# Altium integrated library Linear Technology Power Management Switching Regulator LTC1174-LTC3901.IntLib: 2647 symbols (part 246 of 364)
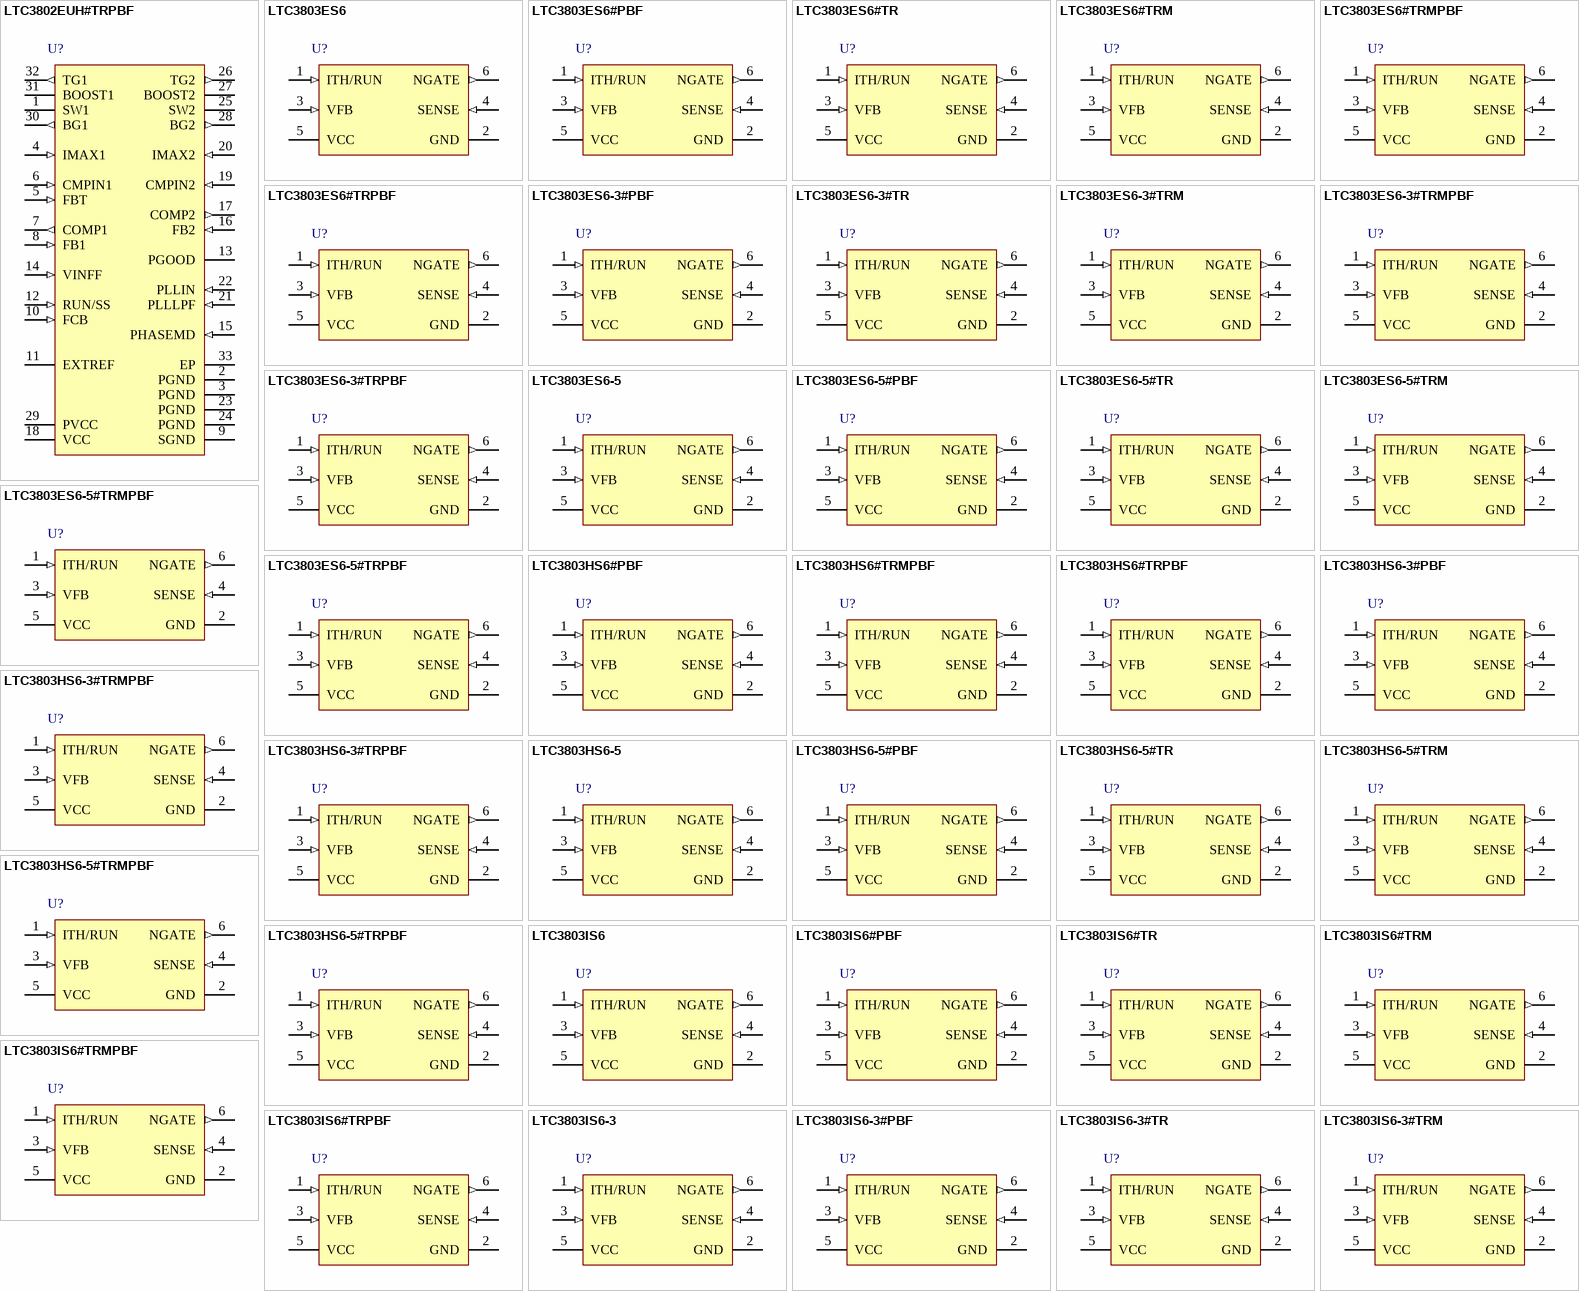
[diagram p242: symbols LTC3802EUH#TRPBF to LTC3803IS6-3#TRM]

## LTC3803HS6-5#TRM
designator U?
Constant Frequency Current Mode Flyback DC/DC Controller, 6-pin SOT23 (S6-6), -40 to 150 degC, Mini Tape and Reel; Manufacturer: Linear Technology; PartNumber: LTC3803HS6-5#TRM; Number of Outputs: 1; DatasheetVersion: Rev. D; PackageVersion: Jun-10; PackageReference: S6-6; PackageDescription: 6-Pin Plastic TSOT-23, Body 2.9 x 1.63 mm, Pitch 0.95 mm; Packing: Mini Tape and Reel; RoHS: FALSE; Mounting Technology: Surface Mount; Code_JEDEC: MO-193; ComponentLink1Description: Manufacturer URL; ComponentLink1URL: http://www.linear.com/; ComponentLink2Description: Datasheet; ComponentLink2URL: http://cds.linear.com/docs/en/datasheet/38035fc.pdf; ComponentLink3Description: Package Specification; ComponentLink3URL: http://cds.linear.com/docs/en/packaging/SOT_6_05-08-1636.pdf
footprint LT-S6-6-TSOT-23_N (SOT23, 6-Leads, Body 2.9x1.75mm, Pitch 0.95mm, IPC Medium Density)
footprint LT-S6-6-TSOT-23_L (SOT23, 6-Leads, Body 2.9x1.75mm, Pitch 0.95mm, IPC High Density)
footprint LT-S6-6-TSOT-23_M (SOT23, 6-Leads, Body 2.9x1.75mm, Pitch 0.95mm, IPC Low Density)
pins: 1 ITH/RUN (in), 2 GND (power) "Ground Pin.", 3 VFB (in) "Receives the feedback voltage from an external resistive divider across the output.", 4 SENSE (in) "This pin performs two functions. It monitors switch current by reading the voltage across an external current sense resistor to ground. It also injects a current ramp that develops slope compensation voltage across an (See Datasheet)", 5 VCC (power) "Supply Pin. Must be closely decoupled to GND (Pin 2).", 6 NGATE (out) "Gate Drive for the External N-channel MOSFET. This pin swings from 0V to VCC."

## LTC3803HS6-5#TRMPBF
designator U?
Constant Frequency Current Mode Flyback DC/DC Controller, 6-pin SOT23 (S6-6), -40 to 150 degC, Pb-Free, Mini Tape and Reel; Manufacturer: Linear Technology; PartNumber: LTC3803HS6-5#TRMPBF; Number of Outputs: 1; DatasheetVersion: Rev. D; PackageVersion: Jun-10; PackageReference: S6-6; PackageDescription: 6-Pin Plastic TSOT-23, Body 2.9 x 1.63 mm, Pitch 0.95 mm; Supplier 1: Digi-Key; Supplier Part Number 1: LTC3803HS6-5#TRMPBFTR-ND; Supplier 2: Digi-Key; Supplier Part Number 2: LTC3803HS6-5#TRMPBFCT-ND; Supplier 3: Digi-Key; Supplier Part Number 3: LTC3803HS6-5#TRMPBFDKR-ND; Packing: Mini Tape and Reel; RoHS: TRUE; Mounting Technology: Surface Mount; Code_JEDEC: MO-193; ComponentLink1Description: Manufacturer URL; ComponentLink1URL: http://www.linear.com/; ComponentLink2Description: Datasheet; ComponentLink2URL: http://cds.linear.com/docs/en/datasheet/38035fc.pdf; ComponentLink3Description: Package Specification; ComponentLink3URL: http://cds.linear.com/docs/en/packaging/SOT_6_05-08-1636.pdf
footprint LT-S6-6-TSOT-23_N (SOT23, 6-Leads, Body 2.9x1.75mm, Pitch 0.95mm, IPC Medium Density)
footprint LT-S6-6-TSOT-23_L (SOT23, 6-Leads, Body 2.9x1.75mm, Pitch 0.95mm, IPC High Density)
footprint LT-S6-6-TSOT-23_M (SOT23, 6-Leads, Body 2.9x1.75mm, Pitch 0.95mm, IPC Low Density)
pins: 1 ITH/RUN (in), 2 GND (power) "Ground Pin.", 3 VFB (in) "Receives the feedback voltage from an external resistive divider across the output.", 4 SENSE (in) "This pin performs two functions. It monitors switch current by reading the voltage across an external current sense resistor to ground. It also injects a current ramp that develops slope compensation voltage across an (See Datasheet)", 5 VCC (power) "Supply Pin. Must be closely decoupled to GND (Pin 2).", 6 NGATE (out) "Gate Drive for the External N-channel MOSFET. This pin swings from 0V to VCC."

## LTC3803HS6-5#TRPBF
designator U?
Constant Frequency Current Mode Flyback DC/DC Controller, 6-pin SOT23 (S6-6), -40 to 150 degC, Pb-Free, Tape and Reel; Manufacturer: Linear Technology; PartNumber: LTC3803HS6-5#TRPBF; Number of Outputs: 1; DatasheetVersion: Rev. D; PackageVersion: Jun-10; PackageReference: S6-6; PackageDescription: 6-Pin Plastic TSOT-23, Body 2.9 x 1.63 mm, Pitch 0.95 mm; Supplier 1: Digi-Key; Supplier Part Number 1: LTC3803HS6-5#TRPBF-ND; Packing: Tape and Reel; RoHS: TRUE; Mounting Technology: Surface Mount; Code_JEDEC: MO-193; ComponentLink1Description: Manufacturer URL; ComponentLink1URL: http://www.linear.com/; ComponentLink2Description: Datasheet; ComponentLink2URL: http://cds.linear.com/docs/en/datasheet/38035fc.pdf; ComponentLink3Description: Package Specification; ComponentLink3URL: http://cds.linear.com/docs/en/packaging/SOT_6_05-08-1636.pdf
footprint LT-S6-6-TSOT-23_N (SOT23, 6-Leads, Body 2.9x1.75mm, Pitch 0.95mm, IPC Medium Density)
footprint LT-S6-6-TSOT-23_L (SOT23, 6-Leads, Body 2.9x1.75mm, Pitch 0.95mm, IPC High Density)
footprint LT-S6-6-TSOT-23_M (SOT23, 6-Leads, Body 2.9x1.75mm, Pitch 0.95mm, IPC Low Density)
pins: 1 ITH/RUN (in), 2 GND (power) "Ground Pin.", 3 VFB (in) "Receives the feedback voltage from an external resistive divider across the output.", 4 SENSE (in) "This pin performs two functions. It monitors switch current by reading the voltage across an external current sense resistor to ground. It also injects a current ramp that develops slope compensation voltage across an (See Datasheet)", 5 VCC (power) "Supply Pin. Must be closely decoupled to GND (Pin 2).", 6 NGATE (out) "Gate Drive for the External N-channel MOSFET. This pin swings from 0V to VCC."

## LTC3803IS6
designator U?
Constant Frequency Current Mode Flyback DC/DC Controller, 6-pin SOT23 (S6-6), -40 to 125 degC; Manufacturer: Linear Technology; PartNumber: LTC3803IS6; Number of Outputs: 1; DatasheetVersion: Rev. C; PackageVersion: Jun-10; PackageReference: S6-6; PackageDescription: 6-Pin Plastic TSOT-23, Body 2.9 x 1.63 mm, Pitch 0.95 mm; RoHS: FALSE; Mounting Technology: Surface Mount; Code_JEDEC: MO-193; ComponentLink1Description: Manufacturer URL; ComponentLink1URL: http://www.linear.com/; ComponentLink2Description: Datasheet; ComponentLink2URL: http://cds.linear.com/docs/en/datasheet/3803fc.pdf; ComponentLink3Description: Package Specification; ComponentLink3URL: http://cds.linear.com/docs/en/packaging/SOT_6_05-08-1636.pdf
footprint LT-S6-6-TSOT-23_N (SOT23, 6-Leads, Body 2.9x1.75mm, Pitch 0.95mm, IPC Medium Density)
footprint LT-S6-6-TSOT-23_L (SOT23, 6-Leads, Body 2.9x1.75mm, Pitch 0.95mm, IPC High Density)
footprint LT-S6-6-TSOT-23_M (SOT23, 6-Leads, Body 2.9x1.75mm, Pitch 0.95mm, IPC Low Density)
pins: 1 ITH/RUN (in), 2 GND (power) "Ground Pin.", 3 VFB (in) "Receives the feedback voltage from an external resistive divider across the output.", 4 SENSE (in) "This pin performs two functions. It monitors switch current by reading the voltage across an external current sense resistor to ground. It also injects a current ramp that develops slope compensation voltage across an (See Datasheet)", 5 VCC (power) "Supply Pin. Must be closely decoupled to GND (Pin 2).", 6 NGATE (out) "Gate Drive for the External N-channel MOSFET. This pin swings from 0V to VCC."

## LTC3803IS6#PBF
designator U?
Constant Frequency Current Mode Flyback DC/DC Controller, 6-pin SOT23 (S6-6), -40 to 125 degC, Pb-Free; Manufacturer: Linear Technology; PartNumber: LTC3803IS6#PBF; Number of Outputs: 1; DatasheetVersion: Rev. C; PackageVersion: Jun-10; PackageReference: S6-6; PackageDescription: 6-Pin Plastic TSOT-23, Body 2.9 x 1.63 mm, Pitch 0.95 mm; Supplier 1: Newark; Supplier Part Number 1: 79R3082; RoHS: TRUE; Mounting Technology: Surface Mount; Code_JEDEC: MO-193; ComponentLink1Description: Manufacturer URL; ComponentLink1URL: http://www.linear.com/; ComponentLink2Description: Datasheet; ComponentLink2URL: http://cds.linear.com/docs/en/datasheet/3803fc.pdf; ComponentLink3Description: Package Specification; ComponentLink3URL: http://cds.linear.com/docs/en/packaging/SOT_6_05-08-1636.pdf
footprint LT-S6-6-TSOT-23_N (SOT23, 6-Leads, Body 2.9x1.75mm, Pitch 0.95mm, IPC Medium Density)
footprint LT-S6-6-TSOT-23_L (SOT23, 6-Leads, Body 2.9x1.75mm, Pitch 0.95mm, IPC High Density)
footprint LT-S6-6-TSOT-23_M (SOT23, 6-Leads, Body 2.9x1.75mm, Pitch 0.95mm, IPC Low Density)
pins: 1 ITH/RUN (in), 2 GND (power) "Ground Pin.", 3 VFB (in) "Receives the feedback voltage from an external resistive divider across the output.", 4 SENSE (in) "This pin performs two functions. It monitors switch current by reading the voltage across an external current sense resistor to ground. It also injects a current ramp that develops slope compensation voltage across an (See Datasheet)", 5 VCC (power) "Supply Pin. Must be closely decoupled to GND (Pin 2).", 6 NGATE (out) "Gate Drive for the External N-channel MOSFET. This pin swings from 0V to VCC."

## LTC3803IS6#TR
designator U?
Constant Frequency Current Mode Flyback DC/DC Controller, 6-pin SOT23 (S6-6), -40 to 125 degC, Tape and Reel; Manufacturer: Linear Technology; PartNumber: LTC3803IS6#TR; Number of Outputs: 1; DatasheetVersion: Rev. C; PackageVersion: Jun-10; PackageReference: S6-6; PackageDescription: 6-Pin Plastic TSOT-23, Body 2.9 x 1.63 mm, Pitch 0.95 mm; Supplier 1: Newark; Supplier Part Number 1: 56M8456; Packing: Tape and Reel; RoHS: FALSE; Mounting Technology: Surface Mount; Code_JEDEC: MO-193; ComponentLink1Description: Manufacturer URL; ComponentLink1URL: http://www.linear.com/; ComponentLink2Description: Datasheet; ComponentLink2URL: http://cds.linear.com/docs/en/datasheet/3803fc.pdf; ComponentLink3Description: Package Specification; ComponentLink3URL: http://cds.linear.com/docs/en/packaging/SOT_6_05-08-1636.pdf
footprint LT-S6-6-TSOT-23_N (SOT23, 6-Leads, Body 2.9x1.75mm, Pitch 0.95mm, IPC Medium Density)
footprint LT-S6-6-TSOT-23_L (SOT23, 6-Leads, Body 2.9x1.75mm, Pitch 0.95mm, IPC High Density)
footprint LT-S6-6-TSOT-23_M (SOT23, 6-Leads, Body 2.9x1.75mm, Pitch 0.95mm, IPC Low Density)
pins: 1 ITH/RUN (in), 2 GND (power) "Ground Pin.", 3 VFB (in) "Receives the feedback voltage from an external resistive divider across the output.", 4 SENSE (in) "This pin performs two functions. It monitors switch current by reading the voltage across an external current sense resistor to ground. It also injects a current ramp that develops slope compensation voltage across an (See Datasheet)", 5 VCC (power) "Supply Pin. Must be closely decoupled to GND (Pin 2).", 6 NGATE (out) "Gate Drive for the External N-channel MOSFET. This pin swings from 0V to VCC."

## LTC3803IS6#TRM
designator U?
Constant Frequency Current Mode Flyback DC/DC Controller, 6-pin SOT23 (S6-6), -40 to 125 degC, Mini Tape and Reel; Manufacturer: Linear Technology; PartNumber: LTC3803IS6#TRM; Number of Outputs: 1; DatasheetVersion: Rev. C; PackageVersion: Jun-10; PackageReference: S6-6; PackageDescription: 6-Pin Plastic TSOT-23, Body 2.9 x 1.63 mm, Pitch 0.95 mm; Supplier 1: Newark; Supplier Part Number 1: 56M8457; Packing: Mini Tape and Reel; RoHS: FALSE; Mounting Technology: Surface Mount; Code_JEDEC: MO-193; ComponentLink1Description: Manufacturer URL; ComponentLink1URL: http://www.linear.com/; ComponentLink2Description: Datasheet; ComponentLink2URL: http://cds.linear.com/docs/en/datasheet/3803fc.pdf; ComponentLink3Description: Package Specification; ComponentLink3URL: http://cds.linear.com/docs/en/packaging/SOT_6_05-08-1636.pdf
footprint LT-S6-6-TSOT-23_N (SOT23, 6-Leads, Body 2.9x1.75mm, Pitch 0.95mm, IPC Medium Density)
footprint LT-S6-6-TSOT-23_L (SOT23, 6-Leads, Body 2.9x1.75mm, Pitch 0.95mm, IPC High Density)
footprint LT-S6-6-TSOT-23_M (SOT23, 6-Leads, Body 2.9x1.75mm, Pitch 0.95mm, IPC Low Density)
pins: 1 ITH/RUN (in), 2 GND (power) "Ground Pin.", 3 VFB (in) "Receives the feedback voltage from an external resistive divider across the output.", 4 SENSE (in) "This pin performs two functions. It monitors switch current by reading the voltage across an external current sense resistor to ground. It also injects a current ramp that develops slope compensation voltage across an (See Datasheet)", 5 VCC (power) "Supply Pin. Must be closely decoupled to GND (Pin 2).", 6 NGATE (out) "Gate Drive for the External N-channel MOSFET. This pin swings from 0V to VCC."

## LTC3803IS6#TRMPBF
designator U?
Constant Frequency Current Mode Flyback DC/DC Controller, 6-pin SOT23 (S6-6), -40 to 125 degC, Pb-Free, Mini Tape and Reel; Manufacturer: Linear Technology; PartNumber: LTC3803IS6#TRMPBF; Number of Outputs: 1; DatasheetVersion: Rev. C; PackageVersion: Jun-10; PackageReference: S6-6; PackageDescription: 6-Pin Plastic TSOT-23, Body 2.9 x 1.63 mm, Pitch 0.95 mm; Supplier 1: Digi-Key; Supplier Part Number 1: LTC3803IS6#TRMPBFTR-ND; Supplier 2: Digi-Key; Supplier Part Number 2: LTC3803IS6#TRMPBFCT-ND; Supplier 3: Digi-Key; Supplier Part Number 3: LTC3803IS6#TRMPBFDKR-ND; Supplier 4: Newark; Supplier Part Number 4: 56M8458; Packing: Mini Tape and Reel; RoHS: TRUE; Mounting Technology: Surface Mount; Code_JEDEC: MO-193; ComponentLink1Description: Manufacturer URL; ComponentLink1URL: http://www.linear.com/; ComponentLink2Description: Datasheet; ComponentLink2URL: http://cds.linear.com/docs/en/datasheet/3803fc.pdf; ComponentLink3Description: Package Specification; ComponentLink3URL: http://cds.linear.com/docs/en/packaging/SOT_6_05-08-1636.pdf
footprint LT-S6-6-TSOT-23_N (SOT23, 6-Leads, Body 2.9x1.75mm, Pitch 0.95mm, IPC Medium Density)
footprint LT-S6-6-TSOT-23_L (SOT23, 6-Leads, Body 2.9x1.75mm, Pitch 0.95mm, IPC High Density)
footprint LT-S6-6-TSOT-23_M (SOT23, 6-Leads, Body 2.9x1.75mm, Pitch 0.95mm, IPC Low Density)
pins: 1 ITH/RUN (in), 2 GND (power) "Ground Pin.", 3 VFB (in) "Receives the feedback voltage from an external resistive divider across the output.", 4 SENSE (in) "This pin performs two functions. It monitors switch current by reading the voltage across an external current sense resistor to ground. It also injects a current ramp that develops slope compensation voltage across an (See Datasheet)", 5 VCC (power) "Supply Pin. Must be closely decoupled to GND (Pin 2).", 6 NGATE (out) "Gate Drive for the External N-channel MOSFET. This pin swings from 0V to VCC."

## LTC3803IS6#TRPBF
designator U?
Constant Frequency Current Mode Flyback DC/DC Controller, 6-pin SOT23 (S6-6), -40 to 125 degC, Pb-Free, Tape and Reel; Manufacturer: Linear Technology; PartNumber: LTC3803IS6#TRPBF; Number of Outputs: 1; DatasheetVersion: Rev. C; PackageVersion: Jun-10; PackageReference: S6-6; PackageDescription: 6-Pin Plastic TSOT-23, Body 2.9 x 1.63 mm, Pitch 0.95 mm; Supplier 1: Digi-Key; Supplier Part Number 1: LTC3803IS6#TRPBF-ND; Supplier 2: Newark; Supplier Part Number 2: 56M8459; Packing: Tape and Reel; RoHS: TRUE; Mounting Technology: Surface Mount; Code_JEDEC: MO-193; ComponentLink1Description: Manufacturer URL; ComponentLink1URL: http://www.linear.com/; ComponentLink2Description: Datasheet; ComponentLink2URL: http://cds.linear.com/docs/en/datasheet/3803fc.pdf; ComponentLink3Description: Package Specification; ComponentLink3URL: http://cds.linear.com/docs/en/packaging/SOT_6_05-08-1636.pdf
footprint LT-S6-6-TSOT-23_N (SOT23, 6-Leads, Body 2.9x1.75mm, Pitch 0.95mm, IPC Medium Density)
footprint LT-S6-6-TSOT-23_L (SOT23, 6-Leads, Body 2.9x1.75mm, Pitch 0.95mm, IPC High Density)
footprint LT-S6-6-TSOT-23_M (SOT23, 6-Leads, Body 2.9x1.75mm, Pitch 0.95mm, IPC Low Density)
pins: 1 ITH/RUN (in), 2 GND (power) "Ground Pin.", 3 VFB (in) "Receives the feedback voltage from an external resistive divider across the output.", 4 SENSE (in) "This pin performs two functions. It monitors switch current by reading the voltage across an external current sense resistor to ground. It also injects a current ramp that develops slope compensation voltage across an (See Datasheet)", 5 VCC (power) "Supply Pin. Must be closely decoupled to GND (Pin 2).", 6 NGATE (out) "Gate Drive for the External N-channel MOSFET. This pin swings from 0V to VCC."

## LTC3803IS6-3
designator U?
Constant Frequency Current Mode Flyback DC/DC Controller, 6-pin SOT23 (S6-6), -40 to 125 degC; Manufacturer: Linear Technology; PartNumber: LTC3803IS6-3; Number of Outputs: 1; DatasheetVersion: Rev. D; PackageVersion: Jun-10; PackageReference: S6-6; PackageDescription: 6-Pin Plastic TSOT-23, Body 2.9 x 1.63 mm, Pitch 0.95 mm; RoHS: FALSE; Mounting Technology: Surface Mount; Code_JEDEC: MO-193; ComponentLink1Description: Manufacturer URL; ComponentLink1URL: http://www.linear.com/; ComponentLink2Description: Datasheet; ComponentLink2URL: http://cds.linear.com/docs/en/datasheet/38033fd.pdf; ComponentLink3Description: Package Specification; ComponentLink3URL: http://cds.linear.com/docs/en/packaging/SOT_6_05-08-1636.pdf
footprint LT-S6-6-TSOT-23_N (SOT23, 6-Leads, Body 2.9x1.75mm, Pitch 0.95mm, IPC Medium Density)
footprint LT-S6-6-TSOT-23_L (SOT23, 6-Leads, Body 2.9x1.75mm, Pitch 0.95mm, IPC High Density)
footprint LT-S6-6-TSOT-23_M (SOT23, 6-Leads, Body 2.9x1.75mm, Pitch 0.95mm, IPC Low Density)
pins: 1 ITH/RUN (in), 2 GND (power) "Ground Pin.", 3 VFB (in) "Receives the feedback voltage from an external resistive divider across the output.", 4 SENSE (in) "This pin performs two functions. It monitors switch current by reading the voltage across an external current sense resistor to ground. It also injects a current ramp that develops slope compensation voltage across an (See Datasheet)", 5 VCC (power) "Supply Pin. Must be closely decoupled to GND (Pin 2).", 6 NGATE (out) "Gate Drive for the External N-channel MOSFET. This pin swings from 0V to VCC."

## LTC3803IS6-3#PBF
designator U?
Constant Frequency Current Mode Flyback DC/DC Controller, 6-pin SOT23 (S6-6), -40 to 125 degC, Pb-Free; Manufacturer: Linear Technology; PartNumber: LTC3803IS6-3#PBF; Number of Outputs: 1; DatasheetVersion: Rev. D; PackageVersion: Jun-10; PackageReference: S6-6; PackageDescription: 6-Pin Plastic TSOT-23, Body 2.9 x 1.63 mm, Pitch 0.95 mm; RoHS: TRUE; Mounting Technology: Surface Mount; Code_JEDEC: MO-193; ComponentLink1Description: Manufacturer URL; ComponentLink1URL: http://www.linear.com/; ComponentLink2Description: Datasheet; ComponentLink2URL: http://cds.linear.com/docs/en/datasheet/38033fd.pdf; ComponentLink3Description: Package Specification; ComponentLink3URL: http://cds.linear.com/docs/en/packaging/SOT_6_05-08-1636.pdf
footprint LT-S6-6-TSOT-23_N (SOT23, 6-Leads, Body 2.9x1.75mm, Pitch 0.95mm, IPC Medium Density)
footprint LT-S6-6-TSOT-23_L (SOT23, 6-Leads, Body 2.9x1.75mm, Pitch 0.95mm, IPC High Density)
footprint LT-S6-6-TSOT-23_M (SOT23, 6-Leads, Body 2.9x1.75mm, Pitch 0.95mm, IPC Low Density)
pins: 1 ITH/RUN (in), 2 GND (power) "Ground Pin.", 3 VFB (in) "Receives the feedback voltage from an external resistive divider across the output.", 4 SENSE (in) "This pin performs two functions. It monitors switch current by reading the voltage across an external current sense resistor to ground. It also injects a current ramp that develops slope compensation voltage across an (See Datasheet)", 5 VCC (power) "Supply Pin. Must be closely decoupled to GND (Pin 2).", 6 NGATE (out) "Gate Drive for the External N-channel MOSFET. This pin swings from 0V to VCC."

## LTC3803IS6-3#TR
designator U?
Constant Frequency Current Mode Flyback DC/DC Controller, 6-pin SOT23 (S6-6), -40 to 125 degC, Tape and Reel; Manufacturer: Linear Technology; PartNumber: LTC3803IS6-3#TR; Number of Outputs: 1; DatasheetVersion: Rev. D; PackageVersion: Jun-10; PackageReference: S6-6; PackageDescription: 6-Pin Plastic TSOT-23, Body 2.9 x 1.63 mm, Pitch 0.95 mm; Packing: Tape and Reel; RoHS: FALSE; Mounting Technology: Surface Mount; Code_JEDEC: MO-193; ComponentLink1Description: Manufacturer URL; ComponentLink1URL: http://www.linear.com/; ComponentLink2Description: Datasheet; ComponentLink2URL: http://cds.linear.com/docs/en/datasheet/38033fd.pdf; ComponentLink3Description: Package Specification; ComponentLink3URL: http://cds.linear.com/docs/en/packaging/SOT_6_05-08-1636.pdf
footprint LT-S6-6-TSOT-23_N (SOT23, 6-Leads, Body 2.9x1.75mm, Pitch 0.95mm, IPC Medium Density)
footprint LT-S6-6-TSOT-23_L (SOT23, 6-Leads, Body 2.9x1.75mm, Pitch 0.95mm, IPC High Density)
footprint LT-S6-6-TSOT-23_M (SOT23, 6-Leads, Body 2.9x1.75mm, Pitch 0.95mm, IPC Low Density)
pins: 1 ITH/RUN (in), 2 GND (power) "Ground Pin.", 3 VFB (in) "Receives the feedback voltage from an external resistive divider across the output.", 4 SENSE (in) "This pin performs two functions. It monitors switch current by reading the voltage across an external current sense resistor to ground. It also injects a current ramp that develops slope compensation voltage across an (See Datasheet)", 5 VCC (power) "Supply Pin. Must be closely decoupled to GND (Pin 2).", 6 NGATE (out) "Gate Drive for the External N-channel MOSFET. This pin swings from 0V to VCC."

## LTC3803IS6-3#TRM
designator U?
Constant Frequency Current Mode Flyback DC/DC Controller, 6-pin SOT23 (S6-6), -40 to 125 degC, Mini Tape and Reel; Manufacturer: Linear Technology; PartNumber: LTC3803IS6-3#TRM; Number of Outputs: 1; DatasheetVersion: Rev. D; PackageVersion: Jun-10; PackageReference: S6-6; PackageDescription: 6-Pin Plastic TSOT-23, Body 2.9 x 1.63 mm, Pitch 0.95 mm; Packing: Mini Tape and Reel; RoHS: FALSE; Mounting Technology: Surface Mount; Code_JEDEC: MO-193; ComponentLink1Description: Manufacturer URL; ComponentLink1URL: http://www.linear.com/; ComponentLink2Description: Datasheet; ComponentLink2URL: http://cds.linear.com/docs/en/datasheet/38033fd.pdf; ComponentLink3Description: Package Specification; ComponentLink3URL: http://cds.linear.com/docs/en/packaging/SOT_6_05-08-1636.pdf
footprint LT-S6-6-TSOT-23_N (SOT23, 6-Leads, Body 2.9x1.75mm, Pitch 0.95mm, IPC Medium Density)
footprint LT-S6-6-TSOT-23_L (SOT23, 6-Leads, Body 2.9x1.75mm, Pitch 0.95mm, IPC High Density)
footprint LT-S6-6-TSOT-23_M (SOT23, 6-Leads, Body 2.9x1.75mm, Pitch 0.95mm, IPC Low Density)
pins: 1 ITH/RUN (in), 2 GND (power) "Ground Pin.", 3 VFB (in) "Receives the feedback voltage from an external resistive divider across the output.", 4 SENSE (in) "This pin performs two functions. It monitors switch current by reading the voltage across an external current sense resistor to ground. It also injects a current ramp that develops slope compensation voltage across an (See Datasheet)", 5 VCC (power) "Supply Pin. Must be closely decoupled to GND (Pin 2).", 6 NGATE (out) "Gate Drive for the External N-channel MOSFET. This pin swings from 0V to VCC."

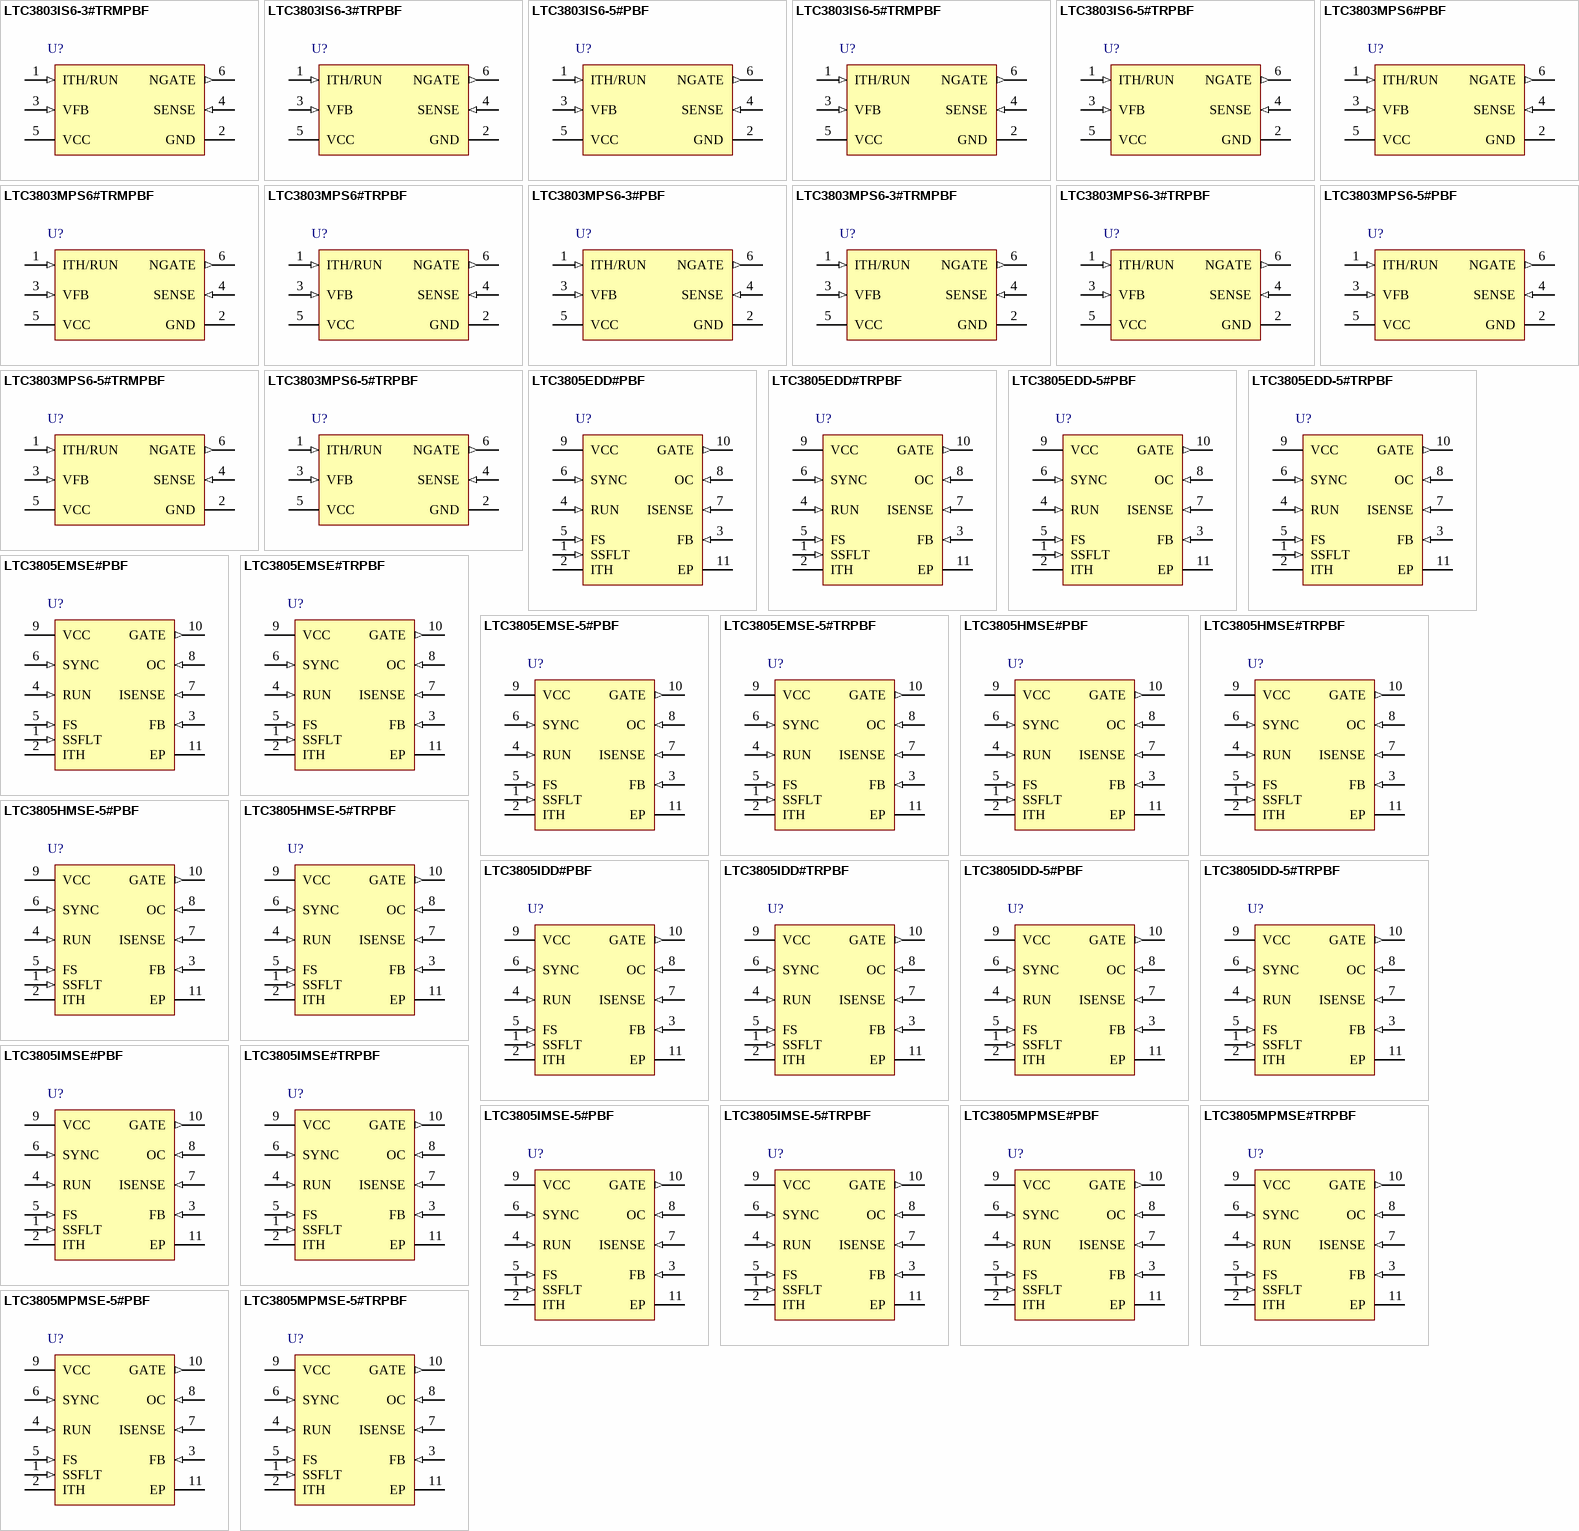
[diagram p76: symbols LTC3803IS6-3#TRMPBF to LTC3805MPMSE-5#TRPBF]

## LTC3803IS6-3#TRMPBF
designator U?
Constant Frequency Current Mode Flyback DC/DC Controller, 6-pin SOT23 (S6-6), -40 to 125 degC, Pb-Free, Mini Tape and Reel; Manufacturer: Linear Technology; PartNumber: LTC3803IS6-3#TRMPBF; Number of Outputs: 1; DatasheetVersion: Rev. D; PackageVersion: Jun-10; PackageReference: S6-6; PackageDescription: 6-Pin Plastic TSOT-23, Body 2.9 x 1.63 mm, Pitch 0.95 mm; Supplier 1: Digi-Key; Supplier Part Number 1: LTC3803IS6-3#TRMPBF-ND; Packing: Mini Tape and Reel; RoHS: TRUE; Mounting Technology: Surface Mount; Code_JEDEC: MO-193; ComponentLink1Description: Manufacturer URL; ComponentLink1URL: http://www.linear.com/; ComponentLink2Description: Datasheet; ComponentLink2URL: http://cds.linear.com/docs/en/datasheet/38033fd.pdf; ComponentLink3Description: Package Specification; ComponentLink3URL: http://cds.linear.com/docs/en/packaging/SOT_6_05-08-1636.pdf
footprint LT-S6-6-TSOT-23_N (SOT23, 6-Leads, Body 2.9x1.75mm, Pitch 0.95mm, IPC Medium Density)
footprint LT-S6-6-TSOT-23_L (SOT23, 6-Leads, Body 2.9x1.75mm, Pitch 0.95mm, IPC High Density)
footprint LT-S6-6-TSOT-23_M (SOT23, 6-Leads, Body 2.9x1.75mm, Pitch 0.95mm, IPC Low Density)
pins: 1 ITH/RUN (in), 2 GND (power) "Ground Pin.", 3 VFB (in) "Receives the feedback voltage from an external resistive divider across the output.", 4 SENSE (in) "This pin performs two functions. It monitors switch current by reading the voltage across an external current sense resistor to ground. It also injects a current ramp that develops slope compensation voltage across an (See Datasheet)", 5 VCC (power) "Supply Pin. Must be closely decoupled to GND (Pin 2).", 6 NGATE (out) "Gate Drive for the External N-channel MOSFET. This pin swings from 0V to VCC."

## LTC3803IS6-3#TRPBF
designator U?
Constant Frequency Current Mode Flyback DC/DC Controller, 6-pin SOT23 (S6-6), -40 to 125 degC, Pb-Free, Tape and Reel; Manufacturer: Linear Technology; PartNumber: LTC3803IS6-3#TRPBF; Number of Outputs: 1; DatasheetVersion: Rev. D; PackageVersion: Jun-10; PackageReference: S6-6; PackageDescription: 6-Pin Plastic TSOT-23, Body 2.9 x 1.63 mm, Pitch 0.95 mm; Supplier 1: Digi-Key; Supplier Part Number 1: LTC3803IS6-3#TRPBF-ND; Supplier 2: Newark; Supplier Part Number 2: 56M8455; Packing: Tape and Reel; RoHS: TRUE; Mounting Technology: Surface Mount; Code_JEDEC: MO-193; ComponentLink1Description: Manufacturer URL; ComponentLink1URL: http://www.linear.com/; ComponentLink2Description: Datasheet; ComponentLink2URL: http://cds.linear.com/docs/en/datasheet/38033fd.pdf; ComponentLink3Description: Package Specification; ComponentLink3URL: http://cds.linear.com/docs/en/packaging/SOT_6_05-08-1636.pdf
footprint LT-S6-6-TSOT-23_N (SOT23, 6-Leads, Body 2.9x1.75mm, Pitch 0.95mm, IPC Medium Density)
footprint LT-S6-6-TSOT-23_L (SOT23, 6-Leads, Body 2.9x1.75mm, Pitch 0.95mm, IPC High Density)
footprint LT-S6-6-TSOT-23_M (SOT23, 6-Leads, Body 2.9x1.75mm, Pitch 0.95mm, IPC Low Density)
pins: 1 ITH/RUN (in), 2 GND (power) "Ground Pin.", 3 VFB (in) "Receives the feedback voltage from an external resistive divider across the output.", 4 SENSE (in) "This pin performs two functions. It monitors switch current by reading the voltage across an external current sense resistor to ground. It also injects a current ramp that develops slope compensation voltage across an (See Datasheet)", 5 VCC (power) "Supply Pin. Must be closely decoupled to GND (Pin 2).", 6 NGATE (out) "Gate Drive for the External N-channel MOSFET. This pin swings from 0V to VCC."

## LTC3803IS6-5#PBF
designator U?
Constant Frequency Current Mode Flyback DC/DC Controller, 6-pin SOT23 (S6-6), -40 to 125 degC, Pb-Free; Manufacturer: Linear Technology; PartNumber: LTC3803IS6-5#PBF; Number of Outputs: 1; DatasheetVersion: Rev. D; PackageVersion: Jun-10; PackageReference: S6-6; PackageDescription: 6-Pin Plastic TSOT-23, Body 2.9 x 1.63 mm, Pitch 0.95 mm; Supplier 1: Newark; Supplier Part Number 1: 78T3250; RoHS: TRUE; Mounting Technology: Surface Mount; Code_JEDEC: MO-193; ComponentLink1Description: Manufacturer URL; ComponentLink1URL: http://www.linear.com/; ComponentLink2Description: Datasheet; ComponentLink2URL: http://cds.linear.com/docs/en/datasheet/38035fc.pdf; ComponentLink3Description: Package Specification; ComponentLink3URL: http://cds.linear.com/docs/en/packaging/SOT_6_05-08-1636.pdf
footprint LT-S6-6-TSOT-23_N (SOT23, 6-Leads, Body 2.9x1.75mm, Pitch 0.95mm, IPC Medium Density)
footprint LT-S6-6-TSOT-23_L (SOT23, 6-Leads, Body 2.9x1.75mm, Pitch 0.95mm, IPC High Density)
footprint LT-S6-6-TSOT-23_M (SOT23, 6-Leads, Body 2.9x1.75mm, Pitch 0.95mm, IPC Low Density)
pins: 1 ITH/RUN (in), 2 GND (power) "Ground Pin.", 3 VFB (in) "Receives the feedback voltage from an external resistive divider across the output.", 4 SENSE (in) "This pin performs two functions. It monitors switch current by reading the voltage across an external current sense resistor to ground. It also injects a current ramp that develops slope compensation voltage across an (See Datasheet)", 5 VCC (power) "Supply Pin. Must be closely decoupled to GND (Pin 2).", 6 NGATE (out) "Gate Drive for the External N-channel MOSFET. This pin swings from 0V to VCC."

## LTC3803IS6-5#TRMPBF
designator U?
Constant Frequency Current Mode Flyback DC/DC Controller, 6-pin SOT23 (S6-6), -40 to 125 degC, Pb-Free, Mini Tape and Reel; Manufacturer: Linear Technology; PartNumber: LTC3803IS6-5#TRMPBF; Number of Outputs: 1; DatasheetVersion: Rev. D; PackageVersion: Jun-10; PackageReference: S6-6; PackageDescription: 6-Pin Plastic TSOT-23, Body 2.9 x 1.63 mm, Pitch 0.95 mm; Supplier 1: Digi-Key; Supplier Part Number 1: LTC3803IS6-5#TRMPBF-ND; Packing: Mini Tape and Reel; RoHS: TRUE; Mounting Technology: Surface Mount; Code_JEDEC: MO-193; ComponentLink1Description: Manufacturer URL; ComponentLink1URL: http://www.linear.com/; ComponentLink2Description: Datasheet; ComponentLink2URL: http://cds.linear.com/docs/en/datasheet/38035fc.pdf; ComponentLink3Description: Package Specification; ComponentLink3URL: http://cds.linear.com/docs/en/packaging/SOT_6_05-08-1636.pdf
footprint LT-S6-6-TSOT-23_N (SOT23, 6-Leads, Body 2.9x1.75mm, Pitch 0.95mm, IPC Medium Density)
footprint LT-S6-6-TSOT-23_L (SOT23, 6-Leads, Body 2.9x1.75mm, Pitch 0.95mm, IPC High Density)
footprint LT-S6-6-TSOT-23_M (SOT23, 6-Leads, Body 2.9x1.75mm, Pitch 0.95mm, IPC Low Density)
pins: 1 ITH/RUN (in), 2 GND (power) "Ground Pin.", 3 VFB (in) "Receives the feedback voltage from an external resistive divider across the output.", 4 SENSE (in) "This pin performs two functions. It monitors switch current by reading the voltage across an external current sense resistor to ground. It also injects a current ramp that develops slope compensation voltage across an (See Datasheet)", 5 VCC (power) "Supply Pin. Must be closely decoupled to GND (Pin 2).", 6 NGATE (out) "Gate Drive for the External N-channel MOSFET. This pin swings from 0V to VCC."

## LTC3803IS6-5#TRPBF
designator U?
Constant Frequency Current Mode Flyback DC/DC Controller, 6-pin SOT23 (S6-6), -40 to 125 degC, Pb-Free, Tape and Reel; Manufacturer: Linear Technology; PartNumber: LTC3803IS6-5#TRPBF; Number of Outputs: 1; DatasheetVersion: Rev. D; PackageVersion: Jun-10; PackageReference: S6-6; PackageDescription: 6-Pin Plastic TSOT-23, Body 2.9 x 1.63 mm, Pitch 0.95 mm; Supplier 1: Digi-Key; Supplier Part Number 1: LTC3803IS6-5#TRPBF-ND; Supplier 2: Newark; Supplier Part Number 2: 01N6405; Packing: Tape and Reel; RoHS: TRUE; Mounting Technology: Surface Mount; Code_JEDEC: MO-193; ComponentLink1Description: Manufacturer URL; ComponentLink1URL: http://www.linear.com/; ComponentLink2Description: Datasheet; ComponentLink2URL: http://cds.linear.com/docs/en/datasheet/38035fc.pdf; ComponentLink3Description: Package Specification; ComponentLink3URL: http://cds.linear.com/docs/en/packaging/SOT_6_05-08-1636.pdf
footprint LT-S6-6-TSOT-23_N (SOT23, 6-Leads, Body 2.9x1.75mm, Pitch 0.95mm, IPC Medium Density)
footprint LT-S6-6-TSOT-23_L (SOT23, 6-Leads, Body 2.9x1.75mm, Pitch 0.95mm, IPC High Density)
footprint LT-S6-6-TSOT-23_M (SOT23, 6-Leads, Body 2.9x1.75mm, Pitch 0.95mm, IPC Low Density)
pins: 1 ITH/RUN (in), 2 GND (power) "Ground Pin.", 3 VFB (in) "Receives the feedback voltage from an external resistive divider across the output.", 4 SENSE (in) "This pin performs two functions. It monitors switch current by reading the voltage across an external current sense resistor to ground. It also injects a current ramp that develops slope compensation voltage across an (See Datasheet)", 5 VCC (power) "Supply Pin. Must be closely decoupled to GND (Pin 2).", 6 NGATE (out) "Gate Drive for the External N-channel MOSFET. This pin swings from 0V to VCC."

## LTC3803MPS6#PBF
designator U?
Constant Frequency Current Mode Flyback DC/DC Controller, 6-pin SOT23 (S6-6), -55 to 150 degC, Pb-Free; Manufacturer: Linear Technology; PartNumber: LTC3803MPS6#PBF; Number of Outputs: 1; DatasheetVersion: Rev. C; PackageVersion: Jun-10; PackageReference: S6-6; PackageDescription: 6-Pin Plastic TSOT-23, Body 2.9 x 1.63 mm, Pitch 0.95 mm; Supplier 1: Newark; Supplier Part Number 1: 79R3059; RoHS: TRUE; Mounting Technology: Surface Mount; Code_JEDEC: MO-193; ComponentLink1Description: Manufacturer URL; ComponentLink1URL: http://www.linear.com/; ComponentLink2Description: Datasheet; ComponentLink2URL: http://cds.linear.com/docs/en/datasheet/3803fc.pdf; ComponentLink3Description: Package Specification; ComponentLink3URL: http://cds.linear.com/docs/en/packaging/SOT_6_05-08-1636.pdf
footprint LT-S6-6-TSOT-23_N (SOT23, 6-Leads, Body 2.9x1.75mm, Pitch 0.95mm, IPC Medium Density)
footprint LT-S6-6-TSOT-23_L (SOT23, 6-Leads, Body 2.9x1.75mm, Pitch 0.95mm, IPC High Density)
footprint LT-S6-6-TSOT-23_M (SOT23, 6-Leads, Body 2.9x1.75mm, Pitch 0.95mm, IPC Low Density)
pins: 1 ITH/RUN (in), 2 GND (power) "Ground Pin.", 3 VFB (in) "Receives the feedback voltage from an external resistive divider across the output.", 4 SENSE (in) "This pin performs two functions. It monitors switch current by reading the voltage across an external current sense resistor to ground. It also injects a current ramp that develops slope compensation voltage across an (See Datasheet)", 5 VCC (power) "Supply Pin. Must be closely decoupled to GND (Pin 2).", 6 NGATE (out) "Gate Drive for the External N-channel MOSFET. This pin swings from 0V to VCC."

## LTC3803MPS6#TRMPBF
designator U?
Constant Frequency Current Mode Flyback DC/DC Controller, 6-pin SOT23 (S6-6), -55 to 150 degC, Pb-Free, Mini Tape and Reel; Manufacturer: Linear Technology; PartNumber: LTC3803MPS6#TRMPBF; Number of Outputs: 1; DatasheetVersion: Rev. C; PackageVersion: Jun-10; PackageReference: S6-6; PackageDescription: 6-Pin Plastic TSOT-23, Body 2.9 x 1.63 mm, Pitch 0.95 mm; Supplier 1: Digi-Key; Supplier Part Number 1: LTC3803MPS6#TRMPBFTR-ND; Supplier 2: Digi-Key; Supplier Part Number 2: LTC3803MPS6#TRMPBFCT-ND; Supplier 3: Digi-Key; Supplier Part Number 3: LTC3803MPS6#TRMPBFDKR-ND; Supplier 4: Newark; Supplier Part Number 4: 78R8368; Supplier 5: Newark; Supplier Part Number 5: 73W9308; Packing: Mini Tape and Reel; RoHS: TRUE; Mounting Technology: Surface Mount; Code_JEDEC: MO-193; ComponentLink1Description: Manufacturer URL; ComponentLink1URL: http://www.linear.com/; ComponentLink2Description: Datasheet; ComponentLink2URL: http://cds.linear.com/docs/en/datasheet/3803fc.pdf; ComponentLink3Description: Package Specification; ComponentLink3URL: http://cds.linear.com/docs/en/packaging/SOT_6_05-08-1636.pdf
footprint LT-S6-6-TSOT-23_N (SOT23, 6-Leads, Body 2.9x1.75mm, Pitch 0.95mm, IPC Medium Density)
footprint LT-S6-6-TSOT-23_L (SOT23, 6-Leads, Body 2.9x1.75mm, Pitch 0.95mm, IPC High Density)
footprint LT-S6-6-TSOT-23_M (SOT23, 6-Leads, Body 2.9x1.75mm, Pitch 0.95mm, IPC Low Density)
pins: 1 ITH/RUN (in), 2 GND (power) "Ground Pin.", 3 VFB (in) "Receives the feedback voltage from an external resistive divider across the output.", 4 SENSE (in) "This pin performs two functions. It monitors switch current by reading the voltage across an external current sense resistor to ground. It also injects a current ramp that develops slope compensation voltage across an (See Datasheet)", 5 VCC (power) "Supply Pin. Must be closely decoupled to GND (Pin 2).", 6 NGATE (out) "Gate Drive for the External N-channel MOSFET. This pin swings from 0V to VCC."

## LTC3803MPS6#TRPBF
designator U?
Constant Frequency Current Mode Flyback DC/DC Controller, 6-pin SOT23 (S6-6), -55 to 150 degC, Pb-Free, Tape and Reel; Manufacturer: Linear Technology; PartNumber: LTC3803MPS6#TRPBF; Number of Outputs: 1; DatasheetVersion: Rev. C; PackageVersion: Jun-10; PackageReference: S6-6; PackageDescription: 6-Pin Plastic TSOT-23, Body 2.9 x 1.63 mm, Pitch 0.95 mm; Supplier 1: Digi-Key; Supplier Part Number 1: LTC3803MPS6#TRPBF-ND; Supplier 2: Newark; Supplier Part Number 2: 78R8369; Packing: Tape and Reel; RoHS: TRUE; Mounting Technology: Surface Mount; Code_JEDEC: MO-193; ComponentLink1Description: Manufacturer URL; ComponentLink1URL: http://www.linear.com/; ComponentLink2Description: Datasheet; ComponentLink2URL: http://cds.linear.com/docs/en/datasheet/3803fc.pdf; ComponentLink3Description: Package Specification; ComponentLink3URL: http://cds.linear.com/docs/en/packaging/SOT_6_05-08-1636.pdf
footprint LT-S6-6-TSOT-23_N (SOT23, 6-Leads, Body 2.9x1.75mm, Pitch 0.95mm, IPC Medium Density)
footprint LT-S6-6-TSOT-23_L (SOT23, 6-Leads, Body 2.9x1.75mm, Pitch 0.95mm, IPC High Density)
footprint LT-S6-6-TSOT-23_M (SOT23, 6-Leads, Body 2.9x1.75mm, Pitch 0.95mm, IPC Low Density)
pins: 1 ITH/RUN (in), 2 GND (power) "Ground Pin.", 3 VFB (in) "Receives the feedback voltage from an external resistive divider across the output.", 4 SENSE (in) "This pin performs two functions. It monitors switch current by reading the voltage across an external current sense resistor to ground. It also injects a current ramp that develops slope compensation voltage across an (See Datasheet)", 5 VCC (power) "Supply Pin. Must be closely decoupled to GND (Pin 2).", 6 NGATE (out) "Gate Drive for the External N-channel MOSFET. This pin swings from 0V to VCC."

## LTC3803MPS6-3#PBF
designator U?
Constant Frequency Current Mode Flyback DC/DC Controller, 6-pin SOT23 (S6-6), -55 to 150 degC, Pb-Free; Manufacturer: Linear Technology; PartNumber: LTC3803MPS6-3#PBF; Number of Outputs: 1; DatasheetVersion: Rev. D; PackageVersion: Jun-10; PackageReference: S6-6; PackageDescription: 6-Pin Plastic TSOT-23, Body 2.9 x 1.63 mm, Pitch 0.95 mm; Supplier 1: Newark; Supplier Part Number 1: 78T3251; RoHS: TRUE; Mounting Technology: Surface Mount; Code_JEDEC: MO-193; ComponentLink1Description: Manufacturer URL; ComponentLink1URL: http://www.linear.com/; ComponentLink2Description: Datasheet; ComponentLink2URL: http://cds.linear.com/docs/en/datasheet/38033fd.pdf; ComponentLink3Description: Package Specification; ComponentLink3URL: http://cds.linear.com/docs/en/packaging/SOT_6_05-08-1636.pdf
footprint LT-S6-6-TSOT-23_N (SOT23, 6-Leads, Body 2.9x1.75mm, Pitch 0.95mm, IPC Medium Density)
footprint LT-S6-6-TSOT-23_L (SOT23, 6-Leads, Body 2.9x1.75mm, Pitch 0.95mm, IPC High Density)
footprint LT-S6-6-TSOT-23_M (SOT23, 6-Leads, Body 2.9x1.75mm, Pitch 0.95mm, IPC Low Density)
pins: 1 ITH/RUN (in), 2 GND (power) "Ground Pin.", 3 VFB (in) "Receives the feedback voltage from an external resistive divider across the output.", 4 SENSE (in) "This pin performs two functions. It monitors switch current by reading the voltage across an external current sense resistor to ground. It also injects a current ramp that develops slope compensation voltage across an (See Datasheet)", 5 VCC (power) "Supply Pin. Must be closely decoupled to GND (Pin 2).", 6 NGATE (out) "Gate Drive for the External N-channel MOSFET. This pin swings from 0V to VCC."

## LTC3803MPS6-3#TRMPBF
designator U?
Constant Frequency Current Mode Flyback DC/DC Controller, 6-pin SOT23 (S6-6), -55 to 150 degC, Pb-Free, Mini Tape and Reel; Manufacturer: Linear Technology; PartNumber: LTC3803MPS6-3#TRMPBF; Number of Outputs: 1; DatasheetVersion: Rev. D; PackageVersion: Jun-10; PackageReference: S6-6; PackageDescription: 6-Pin Plastic TSOT-23, Body 2.9 x 1.63 mm, Pitch 0.95 mm; Supplier 1: Digi-Key; Supplier Part Number 1: LTC3803MPS6-3#TRMPBF-ND; Packing: Mini Tape and Reel; RoHS: TRUE; Mounting Technology: Surface Mount; Code_JEDEC: MO-193; ComponentLink1Description: Manufacturer URL; ComponentLink1URL: http://www.linear.com/; ComponentLink2Description: Datasheet; ComponentLink2URL: http://cds.linear.com/docs/en/datasheet/38033fd.pdf; ComponentLink3Description: Package Specification; ComponentLink3URL: http://cds.linear.com/docs/en/packaging/SOT_6_05-08-1636.pdf
footprint LT-S6-6-TSOT-23_N (SOT23, 6-Leads, Body 2.9x1.75mm, Pitch 0.95mm, IPC Medium Density)
footprint LT-S6-6-TSOT-23_L (SOT23, 6-Leads, Body 2.9x1.75mm, Pitch 0.95mm, IPC High Density)
footprint LT-S6-6-TSOT-23_M (SOT23, 6-Leads, Body 2.9x1.75mm, Pitch 0.95mm, IPC Low Density)
pins: 1 ITH/RUN (in), 2 GND (power) "Ground Pin.", 3 VFB (in) "Receives the feedback voltage from an external resistive divider across the output.", 4 SENSE (in) "This pin performs two functions. It monitors switch current by reading the voltage across an external current sense resistor to ground. It also injects a current ramp that develops slope compensation voltage across an (See Datasheet)", 5 VCC (power) "Supply Pin. Must be closely decoupled to GND (Pin 2).", 6 NGATE (out) "Gate Drive for the External N-channel MOSFET. This pin swings from 0V to VCC."

## LTC3803MPS6-3#TRPBF
designator U?
Constant Frequency Current Mode Flyback DC/DC Controller, 6-pin SOT23 (S6-6), -55 to 150 degC, Pb-Free, Tape and Reel; Manufacturer: Linear Technology; PartNumber: LTC3803MPS6-3#TRPBF; Number of Outputs: 1; DatasheetVersion: Rev. D; PackageVersion: Jun-10; PackageReference: S6-6; PackageDescription: 6-Pin Plastic TSOT-23, Body 2.9 x 1.63 mm, Pitch 0.95 mm; Supplier 1: Digi-Key; Supplier Part Number 1: LTC3803MPS6-3#TRPBF-ND; Packing: Tape and Reel; RoHS: TRUE; Mounting Technology: Surface Mount; Code_JEDEC: MO-193; ComponentLink1Description: Manufacturer URL; ComponentLink1URL: http://www.linear.com/; ComponentLink2Description: Datasheet; ComponentLink2URL: http://cds.linear.com/docs/en/datasheet/38033fd.pdf; ComponentLink3Description: Package Specification; ComponentLink3URL: http://cds.linear.com/docs/en/packaging/SOT_6_05-08-1636.pdf
footprint LT-S6-6-TSOT-23_N (SOT23, 6-Leads, Body 2.9x1.75mm, Pitch 0.95mm, IPC Medium Density)
footprint LT-S6-6-TSOT-23_L (SOT23, 6-Leads, Body 2.9x1.75mm, Pitch 0.95mm, IPC High Density)
footprint LT-S6-6-TSOT-23_M (SOT23, 6-Leads, Body 2.9x1.75mm, Pitch 0.95mm, IPC Low Density)
pins: 1 ITH/RUN (in), 2 GND (power) "Ground Pin.", 3 VFB (in) "Receives the feedback voltage from an external resistive divider across the output.", 4 SENSE (in) "This pin performs two functions. It monitors switch current by reading the voltage across an external current sense resistor to ground. It also injects a current ramp that develops slope compensation voltage across an (See Datasheet)", 5 VCC (power) "Supply Pin. Must be closely decoupled to GND (Pin 2).", 6 NGATE (out) "Gate Drive for the External N-channel MOSFET. This pin swings from 0V to VCC."

## LTC3803MPS6-5#PBF
designator U?
Constant Frequency Current Mode Flyback DC/DC Controller, 6-pin SOT23 (S6-6), -55 to 150 degC, Pb-Free; Manufacturer: Linear Technology; PartNumber: LTC3803MPS6-5#PBF; Number of Outputs: 1; DatasheetVersion: Rev. D; PackageVersion: Jun-10; PackageReference: S6-6; PackageDescription: 6-Pin Plastic TSOT-23, Body 2.9 x 1.63 mm, Pitch 0.95 mm; RoHS: TRUE; Mounting Technology: Surface Mount; Code_JEDEC: MO-193; ComponentLink1Description: Manufacturer URL; ComponentLink1URL: http://www.linear.com/; ComponentLink2Description: Datasheet; ComponentLink2URL: http://cds.linear.com/docs/en/datasheet/38035fc.pdf; ComponentLink3Description: Package Specification; ComponentLink3URL: http://cds.linear.com/docs/en/packaging/SOT_6_05-08-1636.pdf
footprint LT-S6-6-TSOT-23_N (SOT23, 6-Leads, Body 2.9x1.75mm, Pitch 0.95mm, IPC Medium Density)
footprint LT-S6-6-TSOT-23_L (SOT23, 6-Leads, Body 2.9x1.75mm, Pitch 0.95mm, IPC High Density)
footprint LT-S6-6-TSOT-23_M (SOT23, 6-Leads, Body 2.9x1.75mm, Pitch 0.95mm, IPC Low Density)
pins: 1 ITH/RUN (in), 2 GND (power) "Ground Pin.", 3 VFB (in) "Receives the feedback voltage from an external resistive divider across the output.", 4 SENSE (in) "This pin performs two functions. It monitors switch current by reading the voltage across an external current sense resistor to ground. It also injects a current ramp that develops slope compensation voltage across an (See Datasheet)", 5 VCC (power) "Supply Pin. Must be closely decoupled to GND (Pin 2).", 6 NGATE (out) "Gate Drive for the External N-channel MOSFET. This pin swings from 0V to VCC."

## LTC3803MPS6-5#TRMPBF
designator U?
Constant Frequency Current Mode Flyback DC/DC Controller, 6-pin SOT23 (S6-6), -55 to 150 degC, Pb-Free, Mini Tape and Reel; Manufacturer: Linear Technology; PartNumber: LTC3803MPS6-5#TRMPBF; Number of Outputs: 1; DatasheetVersion: Rev. D; PackageVersion: Jun-10; PackageReference: S6-6; PackageDescription: 6-Pin Plastic TSOT-23, Body 2.9 x 1.63 mm, Pitch 0.95 mm; Supplier 1: Digi-Key; Supplier Part Number 1: LTC3803MPS6-5#TRMPBF-ND; Packing: Mini Tape and Reel; RoHS: TRUE; Mounting Technology: Surface Mount; Code_JEDEC: MO-193; ComponentLink1Description: Manufacturer URL; ComponentLink1URL: http://www.linear.com/; ComponentLink2Description: Datasheet; ComponentLink2URL: http://cds.linear.com/docs/en/datasheet/38035fc.pdf; ComponentLink3Description: Package Specification; ComponentLink3URL: http://cds.linear.com/docs/en/packaging/SOT_6_05-08-1636.pdf
footprint LT-S6-6-TSOT-23_N (SOT23, 6-Leads, Body 2.9x1.75mm, Pitch 0.95mm, IPC Medium Density)
footprint LT-S6-6-TSOT-23_L (SOT23, 6-Leads, Body 2.9x1.75mm, Pitch 0.95mm, IPC High Density)
footprint LT-S6-6-TSOT-23_M (SOT23, 6-Leads, Body 2.9x1.75mm, Pitch 0.95mm, IPC Low Density)
pins: 1 ITH/RUN (in), 2 GND (power) "Ground Pin.", 3 VFB (in) "Receives the feedback voltage from an external resistive divider across the output.", 4 SENSE (in) "This pin performs two functions. It monitors switch current by reading the voltage across an external current sense resistor to ground. It also injects a current ramp that develops slope compensation voltage across an (See Datasheet)", 5 VCC (power) "Supply Pin. Must be closely decoupled to GND (Pin 2).", 6 NGATE (out) "Gate Drive for the External N-channel MOSFET. This pin swings from 0V to VCC."

## LTC3803MPS6-5#TRPBF
designator U?
Constant Frequency Current Mode Flyback DC/DC Controller, 6-pin SOT23 (S6-6), -55 to 150 degC, Pb-Free, Tape and Reel; Manufacturer: Linear Technology; PartNumber: LTC3803MPS6-5#TRPBF; Number of Outputs: 1; DatasheetVersion: Rev. D; PackageVersion: Jun-10; PackageReference: S6-6; PackageDescription: 6-Pin Plastic TSOT-23, Body 2.9 x 1.63 mm, Pitch 0.95 mm; Supplier 1: Digi-Key; Supplier Part Number 1: LTC3803MPS6-5#TRPBF-ND; Packing: Tape and Reel; RoHS: TRUE; Mounting Technology: Surface Mount; Code_JEDEC: MO-193; ComponentLink1Description: Manufacturer URL; ComponentLink1URL: http://www.linear.com/; ComponentLink2Description: Datasheet; ComponentLink2URL: http://cds.linear.com/docs/en/datasheet/38035fc.pdf; ComponentLink3Description: Package Specification; ComponentLink3URL: http://cds.linear.com/docs/en/packaging/SOT_6_05-08-1636.pdf
footprint LT-S6-6-TSOT-23_N (SOT23, 6-Leads, Body 2.9x1.75mm, Pitch 0.95mm, IPC Medium Density)
footprint LT-S6-6-TSOT-23_L (SOT23, 6-Leads, Body 2.9x1.75mm, Pitch 0.95mm, IPC High Density)
footprint LT-S6-6-TSOT-23_M (SOT23, 6-Leads, Body 2.9x1.75mm, Pitch 0.95mm, IPC Low Density)
pins: 1 ITH/RUN (in), 2 GND (power) "Ground Pin.", 3 VFB (in) "Receives the feedback voltage from an external resistive divider across the output.", 4 SENSE (in) "This pin performs two functions. It monitors switch current by reading the voltage across an external current sense resistor to ground. It also injects a current ramp that develops slope compensation voltage across an (See Datasheet)", 5 VCC (power) "Supply Pin. Must be closely decoupled to GND (Pin 2).", 6 NGATE (out) "Gate Drive for the External N-channel MOSFET. This pin swings from 0V to VCC."

## LTC3805EDD#PBF
designator U?
Adjustable Frequency Current Mode Flyback DC/DC Controller, 10-pin SON (DD-10), -40 to 85 degC, Pb-Free; Manufacturer: Linear Technology; PartNumber: LTC3805EDD#PBF; Frequency Sync Range: 70kHz - 700kHz; Number of Outputs: 1; DatasheetVersion: Rev. G; PackageVersion: Rev. C, 06/2010; PackageReference: DD-10; PackageDescription: 10-Pin Plastic DFN, Body 3 x 3 mm, Pitch 0.5 mm; Supplier 1: Digi-Key; Supplier Part Number 1: LTC3805EDD#PBF-ND; RoHS: TRUE; Mounting Technology: Surface Mount; Code_JEDEC: MO-229; ComponentLink1Description: Manufacturer URL; ComponentLink1URL: http://www.linear.com/; ComponentLink2Description: Datasheet; ComponentLink2URL: http://cds.linear.com/docs/en/datasheet/3805fg.pdf; ComponentLink3Description: Package Specification; ComponentLink3URL: http://cds.linear.com/docs/en/packaging/DFN_10_05-08-1699.pdf
footprint LT-DD-10_V (SON, 10-Leads, Body 3x3mm, Pitch 0.5mm, Thermal Pad 2.38x1.65mm)
pins: 1 SSFLT (in) "Soft-Start Pin. A capacitor placed from this pin to GND (Exposed Pad) controls the rate of rise of converter output voltage during start-up. This capacitor is also used for time out after a fault prior to restart.", 2 ITH "Error Amplifier Compensation Point. Normal operating voltage range is clamped between 0.7V and 1.9V.", 3 FB (in) "Receives the feedback voltage from an external resistor divider across the output.", 4 RUN (in) "An external resistor divider connects this pin to VIN and sets the thresholds for converter operation.", 5 FS (in) "A resistor connected from this pin to ground sets the frequency of operation.", 6 SYNC (in) "Input to synchronize the oscillator to an external source.", 7 ISENSE (in) "Performs two functions: for current mode control, it monitors the switch current, using the voltage across an external current sense resistor. Pin 7 also injects a current ramp that develops slope compensation voltage across (See Datasheet)", 8 OC (in) "Overcurrent Pin. Connect this pin to the external switch current sense resistor. An additional resistor programs the overcurrent trip level.", 9 VCC (power) "Supply Pin. A capacitor must closely decouple VCC to GND (Exposed Pad).", 10 GATE (out) "Gate Drive for the External N-Channel MOSFET. This pin swings from GND to VCC.", 11 EP (power) "Ground. A capacitor must closely decouple GND to VCC (Pin 9). The exposed pad must be soldered to electrical ground on PCB for electrical contact and rated thermal performance."